# Altium footprint library PCB_Terminal_Block_Pcb.PcbLib: 4 footprints
Each footprint in its own frame and in the unit in brackets; x right, y up, seen from the top. Pads: shape width x height; smd on the part's side, far side on the other; paste and mask are expansions set on the pad; w line width, h text height; cw(c..) or ccw(c..) is an arc to the next point about the centre after c.
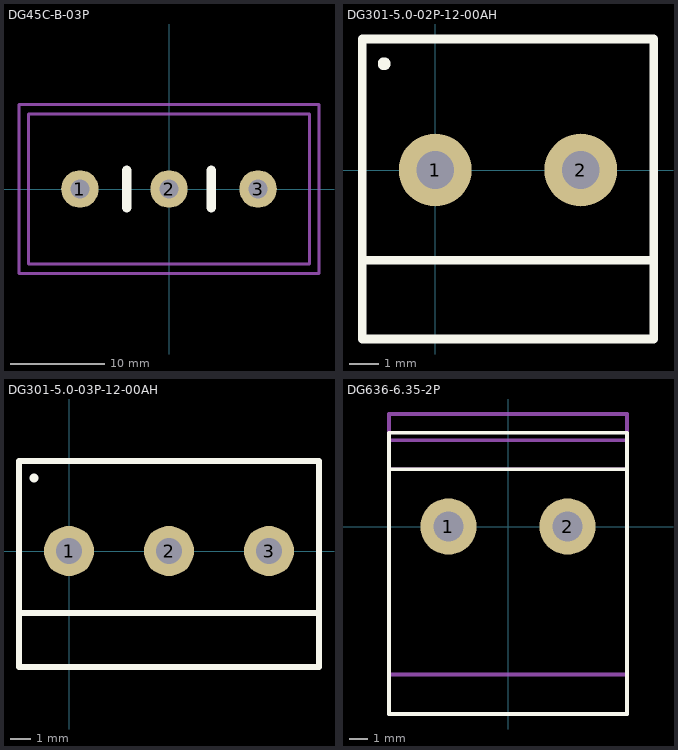
[diagram p0: the footprints below, top view; thin cyan lines are the x and y axes]

## DG45C-B-03P [mm]
pads (3):
  round 4 hole 2: 1(-9.5,0) 2(0,0) 3(9.5,0)
Top Overlay:
  lines w1: -4.5,-2 -4.5,2 ; 4.5,-2 4.5,2
Mechanical 13:
  lines w0.3: -15,-8 -15,0 -15,8 15,8 15,-8 -15,-8
  text "'.Designator'" at -13.246,3.754 h1.5
Mechanical 15:
  lines w0.3: -16,-9 16,-9 16,9 -16,9 -16,-9
3D body "DG45C-B-03P-13.stp": height 18.4, standoff -5.2, extent -15.2,-8.15 15.2,8.15

## DG301-5.0-02P-12-00AH [mm]
pads (2):
  round 2.5 hole 1.3: 1(0,0) 2(5,0)
Top Overlay:
  circle w0.3: c-1.75,3.65 r0.071
  lines w0.3: -2.5,-3.1 7.5,-3.1 ; -2.5,-5.8 -2.5,4.5 7.5,4.5 7.5,1.4 7.5,-5.8 -2.5,-5.8
Mechanical 13:
  circle w0.2: c-1.75,3.65 r0.071
  lines w0.2: -2.5,-3.1 -2.5,4.5 0,4.5 5,4.5 7.5,4.5 7.5,1.4 7.5,-3.1 ; -2.5,-3.1 7.5,-3.1 ; -2.5,-3.1 7.5,-3.1
  text "'.Designator'" at -1.846,-0.046 h1.5
Mechanical 15:
  lines w0.2: -2.5,-5.8 -2.5,4.5 7.5,4.5 7.5,-5.8 -2.5,-5.8
3D body "DG301-5_0-2P12.STEP": height 10, standoff -4.16, extent -3.1,-3.4 7.5,4.2

## DG301-5.0-03P-12-00AH [mm]
pads (3):
  round 2.5 hole 1.3: 1(0,0) 2(5,0) 3(10,0)
Top Overlay:
  circle w0.3: c-1.75,3.65 r0.071
  lines w0.3: -2.5,-3.1 12.5,-3.1 ; -2.5,-5.8 12.5,-5.8 12.5,4.5 -2.5,4.5 -2.5,-5.8
Mechanical 13:
  circle w0.2: c-1.75,3.65 r0.071
  lines w0.2: -2.5,-3.1 12.5,-3.1 12.5,4.5 -2.5,4.5 -2.5,-3.1
  text "'.Designator'" at -1.846,-0.046 h1.5
Mechanical 15:
  lines w0.2: -2.5,-5.8 12.5,-5.8 12.5,4.5 -2.5,4.5 -2.5,-5.8
3D body "DG301-5_0-3P12.STEP": height 10, standoff -4.16, extent -3.1,-3.4 12.5,4.2

## DG636-6.35-2P [mm]
pads (2):
  round 3 hole 1.6: 1(-3.175,0) 2(3.175,0)
Top Overlay:
  lines w0.2: -6.35,3.048 6.35,3.048 ; -6.35,-10 6.35,-10 6.35,5 -6.35,5 -6.35,-10
Mechanical 13:
  lines w0.2: -6.35,-7.9 6.35,-7.9 6.35,4.6 -6.35,4.6 -6.35,-7.9
  text "'.Designator'" at -5.646,-6.246 h1.5
Mechanical 15:
  lines w0.2: -6.35,3.048 6.35,3.048 ; -6.35,-10 6.35,-10 6.35,6 -6.35,6 -6.35,-10
3D body "Ph contact 635-2P PCB Terminal.stp": height 21.51, standoff -4.99, extent -6.889,-7.928 6.381,4.572